# Altium integrated library Analog Devices Switches and Multiplexers Multiplexers (Muxes).IntLib: 481 symbols (part 13 of 23)
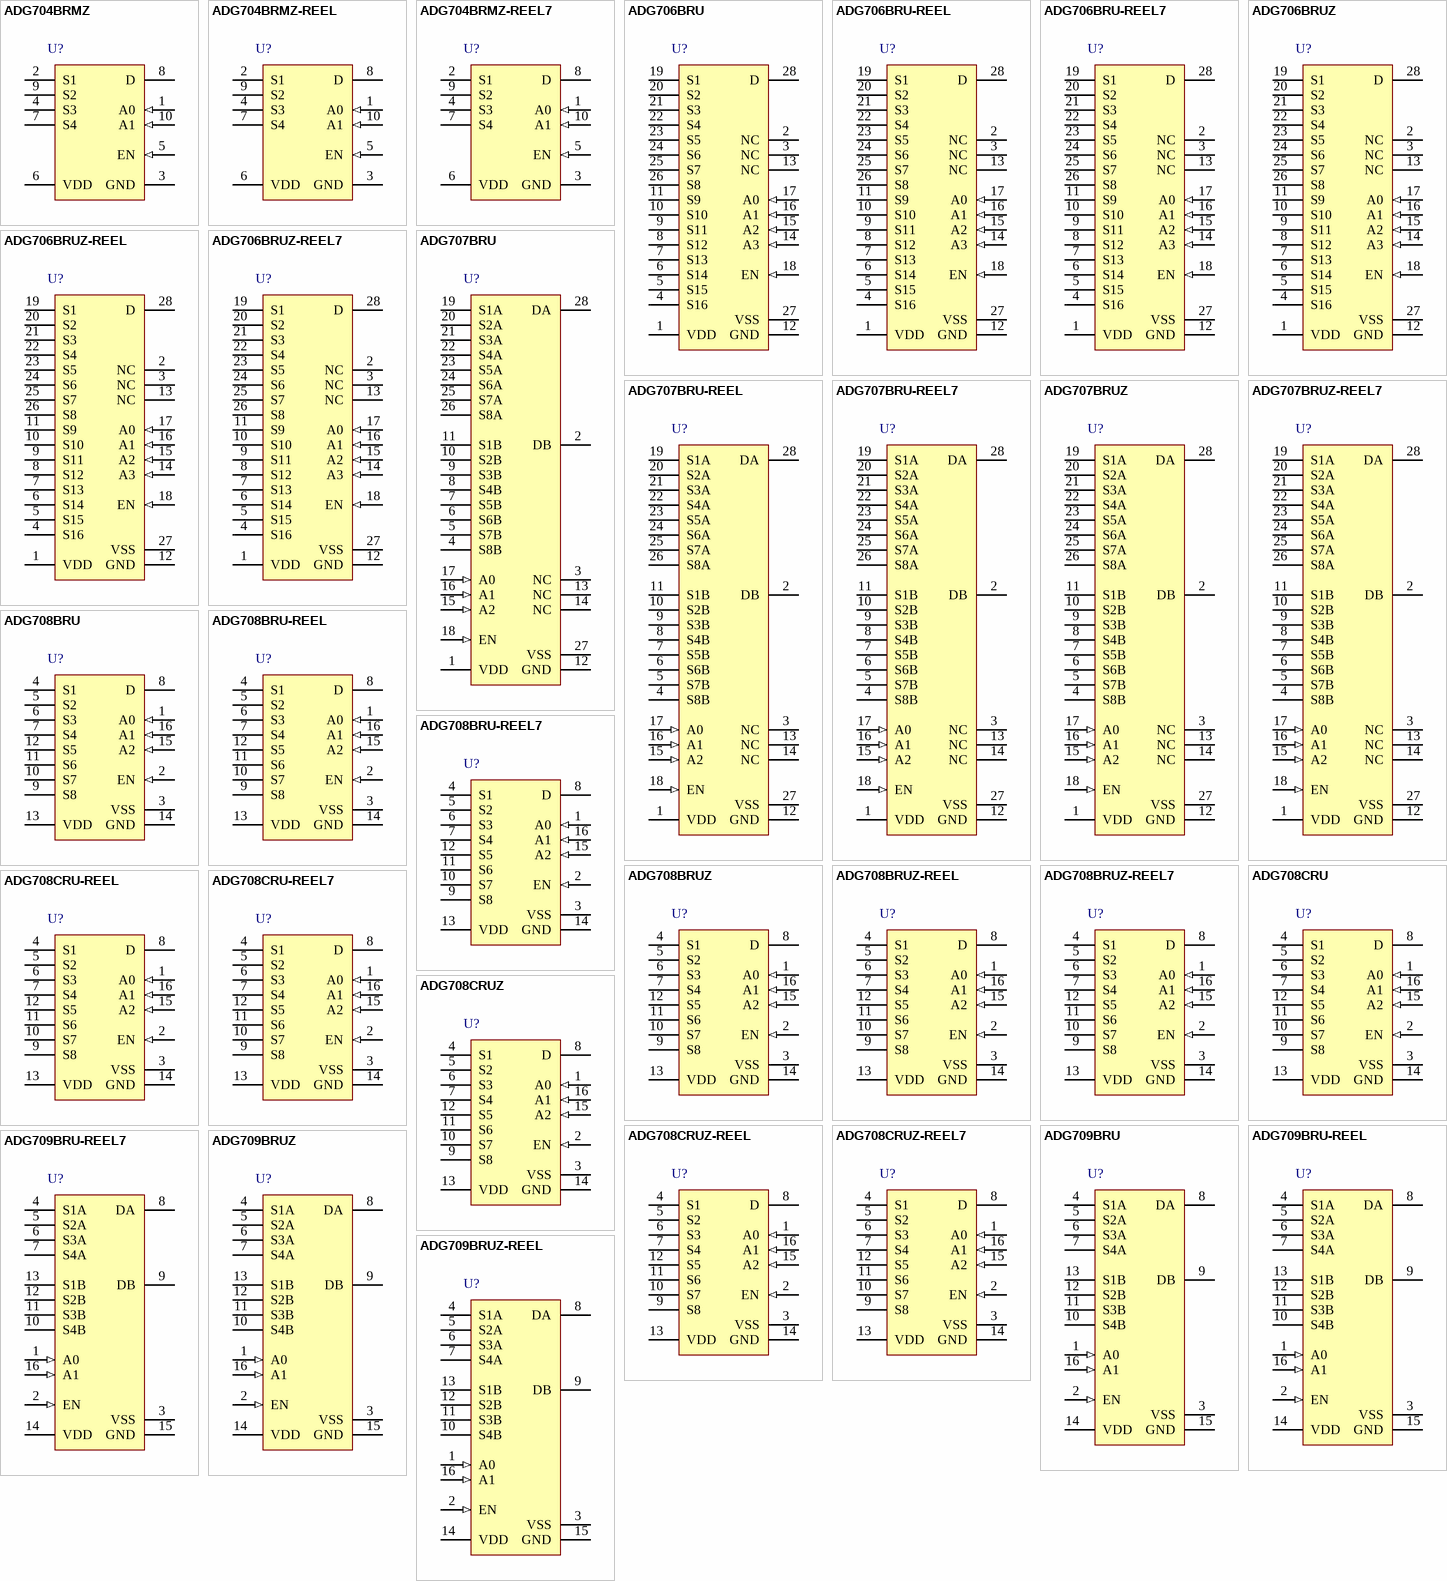
[diagram p29: symbols ADG704BRMZ to ADG709BRUZ-REEL]

## ADG708CRUZ
designator U?
1.8 to 5.5 V / +/-2.5 V, CMOS Low Voltage 3 Ohm, 8-Channel Multiplexer, -40 to 125 degC, 16-pin SOP (RU-16), Tube; Manufacturer: Analog Devices; PartNumber: ADG708CRUZ; Bandwidth (Hz): 55M; Max Analog Signal Range: Vss to Vdd; Ron (ohms): 3; Supply V Guar Performance: Dual_(+/-2.5V), Single_(+3V), Single_(+5V); t transition (s): 14n; DatasheetVersion: Rev. C; PackageVersion: Nov-02; PackageReference: RU-16; PackageDescription: 16-Pin Thin Shrink Small Outline Package, Body 5 x 4.4 mm, Pitch 0.65 mm; Supplier 1: Digi-Key; Supplier Part Number 1: ADG708CRUZ-ND; Supplier 2: Farnell; Supplier Part Number 2: 2305801; Supplier 3: Newark; Supplier Part Number 3: 84W7352; Supplier 4: Newark; Supplier Part Number 4: 59K1504; Supplier 5: Mouser; Supplier Part Number 5: 584-ADG708CRUZ; Packing: Tube; Mounting Technology: Surface Mount; Code_JEDEC: MO-153AB; ComponentLink1Description: Manufacturer URL; ComponentLink1URL: http://www.analog.com/en/index.html; ComponentLink2Description: Datasheet; ComponentLink2URL: http://www.analog.com/static/imported-files/data_sheets/ADG708_709.pdf; ComponentLink3Description: Package Specification; ComponentLink3URL: http:/www.analog.com/static/imported-files/packages/36244347913743854010197452789RU16.pdf
footprint ADI-RU-16_N (SOP, 16-Leads, Body 5x4.4mm, Pitch 0.65mm, IPC Medium Density)
footprint ADI-RU-16_L (SOP, 16-Leads, Body 5x4.4mm, Pitch 0.65mm, IPC High Density)
footprint ADI-RU-16_M (SOP, 16-Leads, Body 5x4.4mm, Pitch 0.65mm, IPC Low Density)
pins: 1 A0 (in) "Digital Input. Controls the configuration of the switch, as shown in the truth table (see Table 7).", 2 EN (in) "Digital Input. Controls the configuration of the switch, as shown in the truth table (see Table 7).", 3 VSS (power) "Most Negative Power Supply Pin in Dual-Supply Applications. For single-supply applications, it should be tied to GND.", 4 S1 "Source Terminal. Can be an input or output.", 5 S2 "Source Terminal. Can be an input or output.", 6 S3 "Source Terminal. Can be an input or output.", 7 S4 "Source Terminal. Can be an input or output.", 8 D "Drain Terminal. Can be an input or output.", 9 S8 "Source Terminal. Can be an input or output.", 10 S7 "Source Terminal. Can be an input or output.", 11 S6 "Source Terminal. Can be an input or output.", 12 S5 "Source Terminal. Can be an input or output.", 13 VDD (power) "Most Positive Power Supply Pin.", 14 GND (power) "Ground (0 V) Reference.", 15 A2 (in) "Digital Input. Controls the configuration of the switch, as shown in the truth table (see Table 7).", 16 A1 (in) "Digital Input. Controls the configuration of the switch, as shown in the truth table (see Table 7)."

## ADG708CRUZ-REEL
designator U?
1.8 to 5.5 V / +/-2.5 V, CMOS Low Voltage 3 Ohm, 8-Channel Multiplexer, -40 to 125 degC, 16-pin SOP (RU-16), Reel; Manufacturer: Analog Devices; PartNumber: ADG708CRUZ-REEL; Bandwidth (Hz): 55M; Max Analog Signal Range: Vss to Vdd; Ron (ohms): 3; Supply V Guar Performance: Dual_(+/-2.5V), Single_(+3V), Single_(+5V); t transition (s): 14n; DatasheetVersion: Rev. C; PackageVersion: Nov-02; PackageReference: RU-16; PackageDescription: 16-Pin Thin Shrink Small Outline Package, Body 5 x 4.4 mm, Pitch 0.65 mm; Supplier 1: Digi-Key; Supplier Part Number 1: ADG708CRUZ-REEL-ND; Supplier 2: Mouser; Supplier Part Number 2: 584-ADG708CRUZ-R; Packing: Reel; Mounting Technology: Surface Mount; Code_JEDEC: MO-153AB; ComponentLink1Description: Manufacturer URL; ComponentLink1URL: http://www.analog.com/en/index.html; ComponentLink2Description: Datasheet; ComponentLink2URL: http://www.analog.com/static/imported-files/data_sheets/ADG708_709.pdf; ComponentLink3Description: Package Specification; ComponentLink3URL: http:/www.analog.com/static/imported-files/packages/36244347913743854010197452789RU16.pdf
footprint ADI-RU-16_N (SOP, 16-Leads, Body 5x4.4mm, Pitch 0.65mm, IPC Medium Density)
footprint ADI-RU-16_L (SOP, 16-Leads, Body 5x4.4mm, Pitch 0.65mm, IPC High Density)
footprint ADI-RU-16_M (SOP, 16-Leads, Body 5x4.4mm, Pitch 0.65mm, IPC Low Density)
pins: 1 A0 (in) "Digital Input. Controls the configuration of the switch, as shown in the truth table (see Table 7).", 2 EN (in) "Digital Input. Controls the configuration of the switch, as shown in the truth table (see Table 7).", 3 VSS (power) "Most Negative Power Supply Pin in Dual-Supply Applications. For single-supply applications, it should be tied to GND.", 4 S1 "Source Terminal. Can be an input or output.", 5 S2 "Source Terminal. Can be an input or output.", 6 S3 "Source Terminal. Can be an input or output.", 7 S4 "Source Terminal. Can be an input or output.", 8 D "Drain Terminal. Can be an input or output.", 9 S8 "Source Terminal. Can be an input or output.", 10 S7 "Source Terminal. Can be an input or output.", 11 S6 "Source Terminal. Can be an input or output.", 12 S5 "Source Terminal. Can be an input or output.", 13 VDD (power) "Most Positive Power Supply Pin.", 14 GND (power) "Ground (0 V) Reference.", 15 A2 (in) "Digital Input. Controls the configuration of the switch, as shown in the truth table (see Table 7).", 16 A1 (in) "Digital Input. Controls the configuration of the switch, as shown in the truth table (see Table 7)."

## ADG708CRUZ-REEL7
designator U?
1.8 to 5.5 V / +/-2.5 V, CMOS Low Voltage 3 Ohm, 8-Channel Multiplexer, -40 to 125 degC, 16-pin SOP (RU-16), Reel; Manufacturer: Analog Devices; PartNumber: ADG708CRUZ-REEL7; Bandwidth (Hz): 55M; Max Analog Signal Range: Vss to Vdd; Ron (ohms): 3; Supply V Guar Performance: Dual_(+/-2.5V), Single_(+3V), Single_(+5V); t transition (s): 14n; DatasheetVersion: Rev. C; PackageVersion: Nov-02; PackageReference: RU-16; PackageDescription: 16-Pin Thin Shrink Small Outline Package, Body 5 x 4.4 mm, Pitch 0.65 mm; Supplier 1: Digi-Key; Supplier Part Number 1: ADG708CRUZ-REEL7TR-ND; Supplier 2: Digi-Key; Supplier Part Number 2: ADG708CRUZ-REEL7CT-ND; Supplier 3: Digi-Key; Supplier Part Number 3: ADG708CRUZ-REEL7DKR-ND; Supplier 4: Newark; Supplier Part Number 4: 59K1506; Supplier 5: Mouser; Supplier Part Number 5: 584-ADG708CRUZ-R7; Packing: Reel; Mounting Technology: Surface Mount; Code_JEDEC: MO-153AB; ComponentLink1Description: Manufacturer URL; ComponentLink1URL: http://www.analog.com/en/index.html; ComponentLink2Description: Datasheet; ComponentLink2URL: http://www.analog.com/static/imported-files/data_sheets/ADG708_709.pdf; ComponentLink3Description: Package Specification; ComponentLink3URL: http:/www.analog.com/static/imported-files/packages/36244347913743854010197452789RU16.pdf
footprint ADI-RU-16_N (SOP, 16-Leads, Body 5x4.4mm, Pitch 0.65mm, IPC Medium Density)
footprint ADI-RU-16_L (SOP, 16-Leads, Body 5x4.4mm, Pitch 0.65mm, IPC High Density)
footprint ADI-RU-16_M (SOP, 16-Leads, Body 5x4.4mm, Pitch 0.65mm, IPC Low Density)
pins: 1 A0 (in) "Digital Input. Controls the configuration of the switch, as shown in the truth table (see Table 7).", 2 EN (in) "Digital Input. Controls the configuration of the switch, as shown in the truth table (see Table 7).", 3 VSS (power) "Most Negative Power Supply Pin in Dual-Supply Applications. For single-supply applications, it should be tied to GND.", 4 S1 "Source Terminal. Can be an input or output.", 5 S2 "Source Terminal. Can be an input or output.", 6 S3 "Source Terminal. Can be an input or output.", 7 S4 "Source Terminal. Can be an input or output.", 8 D "Drain Terminal. Can be an input or output.", 9 S8 "Source Terminal. Can be an input or output.", 10 S7 "Source Terminal. Can be an input or output.", 11 S6 "Source Terminal. Can be an input or output.", 12 S5 "Source Terminal. Can be an input or output.", 13 VDD (power) "Most Positive Power Supply Pin.", 14 GND (power) "Ground (0 V) Reference.", 15 A2 (in) "Digital Input. Controls the configuration of the switch, as shown in the truth table (see Table 7).", 16 A1 (in) "Digital Input. Controls the configuration of the switch, as shown in the truth table (see Table 7)."

## ADG709BRU
designator U?
1.8 to 5.5 V / +/-2.5 V, CMOS Low Voltage 3 Ohm, 4-Channel Multiplexer, -40 to 125 degC, 16-pin SOP (RU-16), Tube; Manufacturer: Analog Devices; PartNumber: ADG709BRU; Bandwidth (Hz): 55M; Max Analog Signal Range: Vss to Vdd; Ron (ohms): 3; Supply V Guar Performance: Dual_(+/-2.5V), Single_(+3V), Single_(+5V); t transition (s): 14 ns; DatasheetVersion: Rev. C; PackageVersion: Nov-02; PackageReference: RU-16; PackageDescription: 16-Pin Thin Shrink Small Outline Package, Body 5 x 4.4 mm, Pitch 0.65 mm; Supplier 1: Digi-Key; Supplier Part Number 1: ADG709BRU-ND; Supplier 2: Mouser; Supplier Part Number 2: 584-ADG709BRU; Packing: Tube; Mounting Technology: Surface Mount; Code_JEDEC: MO-153AB; ComponentLink1Description: Manufacturer URL; ComponentLink1URL: http://www.analog.com/en/index.html; ComponentLink2Description: Datasheet; ComponentLink2URL: http://www.analog.com/static/imported-files/data_sheets/ADG708_709.pdf; ComponentLink3Description: Package Specification; ComponentLink3URL: http:/www.analog.com/static/imported-files/packages/36244347913743854010197452789RU16.pdf
footprint ADI-RU-16_N (SOP, 16-Leads, Body 5x4.4mm, Pitch 0.65mm, IPC Medium Density)
footprint ADI-RU-16_L (SOP, 16-Leads, Body 5x4.4mm, Pitch 0.65mm, IPC High Density)
footprint ADI-RU-16_M (SOP, 16-Leads, Body 5x4.4mm, Pitch 0.65mm, IPC Low Density)
pins: 1 A0 (in) "Digital Input. Controls the configuration of the switch.", 2 EN (in) "Digital Input. Controls the configuration of the switch.", 3 VSS (power) "Most Negative Power Supply Pin in Dual-Supply Applications. For single-supply applications, it should be tied to GND.", 4 S1A "Source Terminal. Can be an input or output.", 5 S2A "Source Terminal. Can be an input or output.", 6 S3A "Source Terminal. Can be an input or output.", 7 S4A "Source Terminal. Can be an input or output.", 8 DA "Drain Terminal. Can be an input or output.", 9 DB "Drain Terminal. Can be an input or output.", 10 S4B "Source Terminal. Can be an input or output.", 11 S3B "Source Terminal. Can be an input or output.", 12 S2B "Source Terminal. Can be an input or output.", 13 S1B "Source Terminal. Can be an input or output.", 14 VDD (power) "Most Positive Power Supply Pin.", 15 GND (power) "Ground (0 V) Reference.", 16 A1 (in) "Digital Input. Controls the configuration of the switch."

## ADG709BRU-REEL
designator U?
1.8 to 5.5 V / +/-2.5 V, CMOS Low Voltage 3 Ohm, 4-Channel Multiplexer, -40 to 125 degC, 16-pin SOP (RU-16), Reel; Manufacturer: Analog Devices; PartNumber: ADG709BRU-REEL; Bandwidth (Hz): 55M; Max Analog Signal Range: Vss to Vdd; Ron (ohms): 3; Supply V Guar Performance: Dual_(+/-2.5V), Single_(+3V), Single_(+5V); t transition (s): 14n; DatasheetVersion: Rev. C; PackageVersion: Nov-02; PackageReference: RU-16; PackageDescription: 16-Pin Thin Shrink Small Outline Package, Body 5 x 4.4 mm, Pitch 0.65 mm; Supplier 1: Digi-Key; Supplier Part Number 1: ADG709BRU-REEL-ND; Supplier 2: Newark; Supplier Part Number 2: 02H0870; Supplier 3: Mouser; Supplier Part Number 3: 584-ADG709BRU-R; Packing: Reel; Mounting Technology: Surface Mount; Code_JEDEC: MO-153AB; ComponentLink1Description: Manufacturer URL; ComponentLink1URL: http://www.analog.com/en/index.html; ComponentLink2Description: Datasheet; ComponentLink2URL: http://www.analog.com/static/imported-files/data_sheets/ADG708_709.pdf; ComponentLink3Description: Package Specification; ComponentLink3URL: http:/www.analog.com/static/imported-files/packages/36244347913743854010197452789RU16.pdf
footprint ADI-RU-16_N (SOP, 16-Leads, Body 5x4.4mm, Pitch 0.65mm, IPC Medium Density)
footprint ADI-RU-16_L (SOP, 16-Leads, Body 5x4.4mm, Pitch 0.65mm, IPC High Density)
footprint ADI-RU-16_M (SOP, 16-Leads, Body 5x4.4mm, Pitch 0.65mm, IPC Low Density)
pins: 1 A0 (in) "Digital Input. Controls the configuration of the switch.", 2 EN (in) "Digital Input. Controls the configuration of the switch.", 3 VSS (power) "Most Negative Power Supply Pin in Dual-Supply Applications. For single-supply applications, it should be tied to GND.", 4 S1A "Source Terminal. Can be an input or output.", 5 S2A "Source Terminal. Can be an input or output.", 6 S3A "Source Terminal. Can be an input or output.", 7 S4A "Source Terminal. Can be an input or output.", 8 DA "Drain Terminal. Can be an input or output.", 9 DB "Drain Terminal. Can be an input or output.", 10 S4B "Source Terminal. Can be an input or output.", 11 S3B "Source Terminal. Can be an input or output.", 12 S2B "Source Terminal. Can be an input or output.", 13 S1B "Source Terminal. Can be an input or output.", 14 VDD (power) "Most Positive Power Supply Pin.", 15 GND (power) "Ground (0 V) Reference.", 16 A1 (in) "Digital Input. Controls the configuration of the switch."

## ADG709BRU-REEL7
designator U?
1.8 to 5.5 V / +/-2.5 V, CMOS Low Voltage 3 Ohm, 4-Channel Multiplexer, -40 to 125 degC, 16-pin SOP (RU-16), Reel; Manufacturer: Analog Devices; PartNumber: ADG709BRU-REEL7; Bandwidth (Hz): 55M; Max Analog Signal Range: Vss to Vdd; Ron (ohms): 3; Supply V Guar Performance: Dual_(+/-2.5V), Single_(+3V), Single_(+5V); t transition (s): 14 ns; DatasheetVersion: Rev. C; PackageVersion: Nov-02; PackageReference: RU-16; PackageDescription: 16-Pin Thin Shrink Small Outline Package, Body 5 x 4.4 mm, Pitch 0.65 mm; Supplier 1: Digi-Key; Supplier Part Number 1: ADG709BRU-REEL7TR-ND; Supplier 2: Digi-Key; Supplier Part Number 2: ADG709BRU-REEL7CT-ND; Supplier 3: Digi-Key; Supplier Part Number 3: ADG709BRUREEL7DKR-ND; Supplier 4: Mouser; Supplier Part Number 4: 584-ADG709BRU-R7; Packing: Reel; Mounting Technology: Surface Mount; Code_JEDEC: MO-153AB; ComponentLink1Description: Manufacturer URL; ComponentLink1URL: http://www.analog.com/en/index.html; ComponentLink2Description: Datasheet; ComponentLink2URL: http://www.analog.com/static/imported-files/data_sheets/ADG708_709.pdf; ComponentLink3Description: Package Specification; ComponentLink3URL: http:/www.analog.com/static/imported-files/packages/36244347913743854010197452789RU16.pdf
footprint ADI-RU-16_N (SOP, 16-Leads, Body 5x4.4mm, Pitch 0.65mm, IPC Medium Density)
footprint ADI-RU-16_L (SOP, 16-Leads, Body 5x4.4mm, Pitch 0.65mm, IPC High Density)
footprint ADI-RU-16_M (SOP, 16-Leads, Body 5x4.4mm, Pitch 0.65mm, IPC Low Density)
pins: 1 A0 (in) "Digital Input. Controls the configuration of the switch.", 2 EN (in) "Digital Input. Controls the configuration of the switch.", 3 VSS (power) "Most Negative Power Supply Pin in Dual-Supply Applications. For single-supply applications, it should be tied to GND.", 4 S1A "Source Terminal. Can be an input or output.", 5 S2A "Source Terminal. Can be an input or output.", 6 S3A "Source Terminal. Can be an input or output.", 7 S4A "Source Terminal. Can be an input or output.", 8 DA "Drain Terminal. Can be an input or output.", 9 DB "Drain Terminal. Can be an input or output.", 10 S4B "Source Terminal. Can be an input or output.", 11 S3B "Source Terminal. Can be an input or output.", 12 S2B "Source Terminal. Can be an input or output.", 13 S1B "Source Terminal. Can be an input or output.", 14 VDD (power) "Most Positive Power Supply Pin.", 15 GND (power) "Ground (0 V) Reference.", 16 A1 (in) "Digital Input. Controls the configuration of the switch."

## ADG709BRUZ
designator U?
1.8 to 5.5 V / +/-2.5 V, CMOS Low Voltage 3 Ohm, 4-Channel Multiplexer, -40 to 125 degC, 16-pin SOP (RU-16), Tube; Manufacturer: Analog Devices; PartNumber: ADG709BRUZ; Bandwidth (Hz): 55M; Max Analog Signal Range: Vss to Vdd; Ron (ohms): 3; Supply V Guar Performance: Dual_(+/-2.5V), Single_(+3V), Single_(+5V); t transition (s): 14n; DatasheetVersion: Rev. C; PackageVersion: Nov-02; PackageReference: RU-16; PackageDescription: 16-Pin Thin Shrink Small Outline Package, Body 5 x 4.4 mm, Pitch 0.65 mm; Supplier 1: Digi-Key; Supplier Part Number 1: ADG709BRUZ-ND; Supplier 2: Farnell; Supplier Part Number 2: 9604359; Supplier 3: Newark; Supplier Part Number 3: 31M3805; Supplier 4: Newark; Supplier Part Number 4: 19M0683; Supplier 5: Mouser; Supplier Part Number 5: 584-ADG709BRUZ; Packing: Tube; Mounting Technology: Surface Mount; Code_JEDEC: MO-153AB; ComponentLink1Description: Manufacturer URL; ComponentLink1URL: http://www.analog.com/en/index.html; ComponentLink2Description: Datasheet; ComponentLink2URL: http://www.analog.com/static/imported-files/data_sheets/ADG708_709.pdf; ComponentLink3Description: Package Specification; ComponentLink3URL: http:/www.analog.com/static/imported-files/packages/36244347913743854010197452789RU16.pdf
footprint ADI-RU-16_N (SOP, 16-Leads, Body 5x4.4mm, Pitch 0.65mm, IPC Medium Density)
footprint ADI-RU-16_L (SOP, 16-Leads, Body 5x4.4mm, Pitch 0.65mm, IPC High Density)
footprint ADI-RU-16_M (SOP, 16-Leads, Body 5x4.4mm, Pitch 0.65mm, IPC Low Density)
pins: 1 A0 (in) "Digital Input. Controls the configuration of the switch.", 2 EN (in) "Digital Input. Controls the configuration of the switch.", 3 VSS (power) "Most Negative Power Supply Pin in Dual-Supply Applications. For single-supply applications, it should be tied to GND.", 4 S1A "Source Terminal. Can be an input or output.", 5 S2A "Source Terminal. Can be an input or output.", 6 S3A "Source Terminal. Can be an input or output.", 7 S4A "Source Terminal. Can be an input or output.", 8 DA "Drain Terminal. Can be an input or output.", 9 DB "Drain Terminal. Can be an input or output.", 10 S4B "Source Terminal. Can be an input or output.", 11 S3B "Source Terminal. Can be an input or output.", 12 S2B "Source Terminal. Can be an input or output.", 13 S1B "Source Terminal. Can be an input or output.", 14 VDD (power) "Most Positive Power Supply Pin.", 15 GND (power) "Ground (0 V) Reference.", 16 A1 (in) "Digital Input. Controls the configuration of the switch."

## ADG709BRUZ-REEL
designator U?
1.8 to 5.5 V / +/-2.5 V, CMOS Low Voltage 3 Ohm, 4-Channel Multiplexer, -40 to 125 degC, 16-pin SOP (RU-16), Reel; Manufacturer: Analog Devices; PartNumber: ADG709BRUZ-REEL; Bandwidth (Hz): 55M; Max Analog Signal Range: Vss to Vdd; Ron (ohms): 3; Supply V Guar Performance: Dual_(+/-2.5V), Single_(+3V), Single_(+5V); t transition (s): 14n; DatasheetVersion: Rev. C; PackageVersion: Nov-02; PackageReference: RU-16; PackageDescription: 16-Pin Thin Shrink Small Outline Package, Body 5 x 4.4 mm, Pitch 0.65 mm; Supplier 1: Digi-Key; Supplier Part Number 1: ADG709BRUZ-REEL-ND; Supplier 2: Newark; Supplier Part Number 2: 59K1508; Supplier 3: Mouser; Supplier Part Number 3: 584-ADG709BRUZ-R; Packing: Reel; Mounting Technology: Surface Mount; Code_JEDEC: MO-153AB; ComponentLink1Description: Manufacturer URL; ComponentLink1URL: http://www.analog.com/en/index.html; ComponentLink2Description: Datasheet; ComponentLink2URL: http://www.analog.com/static/imported-files/data_sheets/ADG708_709.pdf; ComponentLink3Description: Package Specification; ComponentLink3URL: http:/www.analog.com/static/imported-files/packages/36244347913743854010197452789RU16.pdf
footprint ADI-RU-16_N (SOP, 16-Leads, Body 5x4.4mm, Pitch 0.65mm, IPC Medium Density)
footprint ADI-RU-16_L (SOP, 16-Leads, Body 5x4.4mm, Pitch 0.65mm, IPC High Density)
footprint ADI-RU-16_M (SOP, 16-Leads, Body 5x4.4mm, Pitch 0.65mm, IPC Low Density)
pins: 1 A0 (in) "Digital Input. Controls the configuration of the switch.", 2 EN (in) "Digital Input. Controls the configuration of the switch.", 3 VSS (power) "Most Negative Power Supply Pin in Dual-Supply Applications. For single-supply applications, it should be tied to GND.", 4 S1A "Source Terminal. Can be an input or output.", 5 S2A "Source Terminal. Can be an input or output.", 6 S3A "Source Terminal. Can be an input or output.", 7 S4A "Source Terminal. Can be an input or output.", 8 DA "Drain Terminal. Can be an input or output.", 9 DB "Drain Terminal. Can be an input or output.", 10 S4B "Source Terminal. Can be an input or output.", 11 S3B "Source Terminal. Can be an input or output.", 12 S2B "Source Terminal. Can be an input or output.", 13 S1B "Source Terminal. Can be an input or output.", 14 VDD (power) "Most Positive Power Supply Pin.", 15 GND (power) "Ground (0 V) Reference.", 16 A1 (in) "Digital Input. Controls the configuration of the switch."

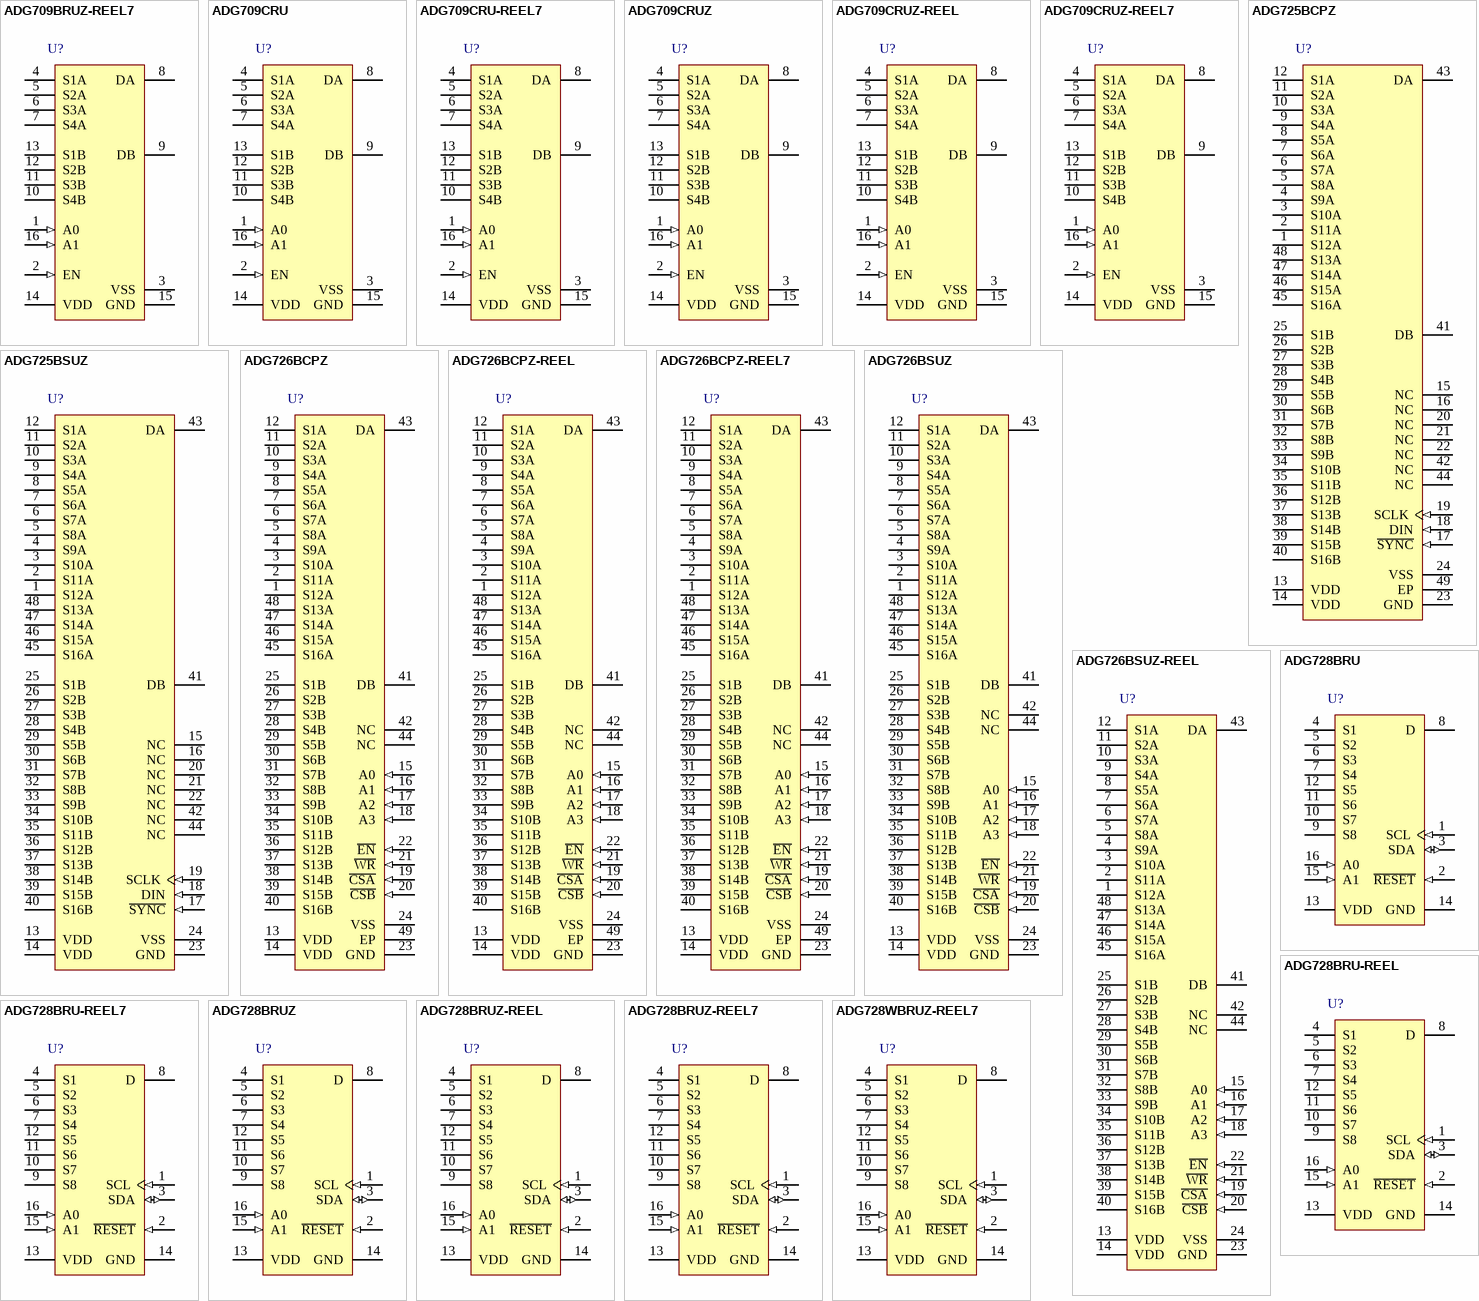
[diagram p10: symbols ADG709BRUZ-REEL7 to ADG728WBRUZ-REEL7]

## ADG709BRUZ-REEL7
designator U?
1.8 to 5.5 V / +/-2.5 V, CMOS Low Voltage 3 Ohm, 4-Channel Multiplexer, -40 to 125 degC, 16-pin SOP (RU-16), Reel; Manufacturer: Analog Devices; PartNumber: ADG709BRUZ-REEL7; Bandwidth (Hz): 55M; Max Analog Signal Range: Vss to Vdd; Ron (ohms): 3; Supply V Guar Performance: Dual_(+/-2.5V), Single_(+3V), Single_(+5V); t transition (s): 14n; DatasheetVersion: Rev. C; PackageVersion: Nov-02; PackageReference: RU-16; PackageDescription: 16-Pin Thin Shrink Small Outline Package, Body 5 x 4.4 mm, Pitch 0.65 mm; Supplier 1: Digi-Key; Supplier Part Number 1: ADG709BRUZ-REEL7TR-ND; Supplier 2: Digi-Key; Supplier Part Number 2: ADG709BRUZ-REEL7CT-ND; Supplier 3: Digi-Key; Supplier Part Number 3: ADG709BRUZ-REEL7DKR-ND; Supplier 4: Newark; Supplier Part Number 4: 59K1509; Supplier 5: Mouser; Supplier Part Number 5: 584-ADG709BRUZ-R7; Packing: Reel; Mounting Technology: Surface Mount; Code_JEDEC: MO-153AB; ComponentLink1Description: Manufacturer URL; ComponentLink1URL: http://www.analog.com/en/index.html; ComponentLink2Description: Datasheet; ComponentLink2URL: http://www.analog.com/static/imported-files/data_sheets/ADG708_709.pdf; ComponentLink3Description: Package Specification; ComponentLink3URL: http:/www.analog.com/static/imported-files/packages/36244347913743854010197452789RU16.pdf
footprint ADI-RU-16_N (SOP, 16-Leads, Body 5x4.4mm, Pitch 0.65mm, IPC Medium Density)
footprint ADI-RU-16_L (SOP, 16-Leads, Body 5x4.4mm, Pitch 0.65mm, IPC High Density)
footprint ADI-RU-16_M (SOP, 16-Leads, Body 5x4.4mm, Pitch 0.65mm, IPC Low Density)
pins: 1 A0 (in) "Digital Input. Controls the configuration of the switch.", 2 EN (in) "Digital Input. Controls the configuration of the switch.", 3 VSS (power) "Most Negative Power Supply Pin in Dual-Supply Applications. For single-supply applications, it should be tied to GND.", 4 S1A "Source Terminal. Can be an input or output.", 5 S2A "Source Terminal. Can be an input or output.", 6 S3A "Source Terminal. Can be an input or output.", 7 S4A "Source Terminal. Can be an input or output.", 8 DA "Drain Terminal. Can be an input or output.", 9 DB "Drain Terminal. Can be an input or output.", 10 S4B "Source Terminal. Can be an input or output.", 11 S3B "Source Terminal. Can be an input or output.", 12 S2B "Source Terminal. Can be an input or output.", 13 S1B "Source Terminal. Can be an input or output.", 14 VDD (power) "Most Positive Power Supply Pin.", 15 GND (power) "Ground (0 V) Reference.", 16 A1 (in) "Digital Input. Controls the configuration of the switch."

## ADG709CRU
designator U?
1.8 to 5.5 V / +/-2.5 V, CMOS Low Voltage 3 Ohm, 4-Channel Multiplexer, -40 to 125 degC, 16-pin SOP (RU-16), Tube; Manufacturer: Analog Devices; PartNumber: ADG709CRU; Bandwidth (Hz): 55M; Max Analog Signal Range: Vss to Vdd; Ron (ohms): 3; Supply V Guar Performance: Dual_(+/-2.5V), Single_(+3V), Single_(+5V); t transition (s): 14n; DatasheetVersion: Rev. C; PackageVersion: Nov-02; PackageReference: RU-16; PackageDescription: 16-Pin Thin Shrink Small Outline Package, Body 5 x 4.4 mm, Pitch 0.65 mm; Supplier 1: Digi-Key; Supplier Part Number 1: ADG709CRU-ND; Packing: Tube; Mounting Technology: Surface Mount; Code_JEDEC: MO-153AB; ComponentLink1Description: Manufacturer URL; ComponentLink1URL: http://www.analog.com/en/index.html; ComponentLink2Description: Datasheet; ComponentLink2URL: http://www.analog.com/static/imported-files/data_sheets/ADG708_709.pdf; ComponentLink3Description: Package Specification; ComponentLink3URL: http:/www.analog.com/static/imported-files/packages/36244347913743854010197452789RU16.pdf
footprint ADI-RU-16_N (SOP, 16-Leads, Body 5x4.4mm, Pitch 0.65mm, IPC Medium Density)
footprint ADI-RU-16_L (SOP, 16-Leads, Body 5x4.4mm, Pitch 0.65mm, IPC High Density)
footprint ADI-RU-16_M (SOP, 16-Leads, Body 5x4.4mm, Pitch 0.65mm, IPC Low Density)
pins: 1 A0 (in) "Digital Input. Controls the configuration of the switch.", 2 EN (in) "Digital Input. Controls the configuration of the switch.", 3 VSS (power) "Most Negative Power Supply Pin in Dual-Supply Applications. For single-supply applications, it should be tied to GND.", 4 S1A "Source Terminal. Can be an input or output.", 5 S2A "Source Terminal. Can be an input or output.", 6 S3A "Source Terminal. Can be an input or output.", 7 S4A "Source Terminal. Can be an input or output.", 8 DA "Drain Terminal. Can be an input or output.", 9 DB "Drain Terminal. Can be an input or output.", 10 S4B "Source Terminal. Can be an input or output.", 11 S3B "Source Terminal. Can be an input or output.", 12 S2B "Source Terminal. Can be an input or output.", 13 S1B "Source Terminal. Can be an input or output.", 14 VDD (power) "Most Positive Power Supply Pin.", 15 GND (power) "Ground (0 V) Reference.", 16 A1 (in) "Digital Input. Controls the configuration of the switch."

## ADG709CRU-REEL7
designator U?
1.8 to 5.5 V / +/-2.5 V, CMOS Low Voltage 3 Ohm, 4-Channel Multiplexer, -40 to 125 degC, 16-pin SOP (RU-16), Reel; Manufacturer: Analog Devices; PartNumber: ADG709CRU-REEL7; Bandwidth (Hz): 55M; Max Analog Signal Range: Vss to Vdd; Ron (ohms): 3; Supply V Guar Performance: Dual_(+/-2.5V), Single_(+3V), Single_(+5V); t transition (s): 14n; DatasheetVersion: Rev. C; PackageVersion: Nov-02; PackageReference: RU-16; PackageDescription: 16-Pin Thin Shrink Small Outline Package, Body 5 x 4.4 mm, Pitch 0.65 mm; Supplier 1: Digi-Key; Supplier Part Number 1: ADG709CRU-REEL7TR-ND; Supplier 2: Digi-Key; Supplier Part Number 2: ADG709CRU-REEL7CT-ND; Supplier 3: Digi-Key; Supplier Part Number 3: ADG709CRU-REEL7DKR-ND; Supplier 4: Newark; Supplier Part Number 4: 02H0873; Supplier 5: Mouser; Supplier Part Number 5: 584-ADG709CRU-R7; Packing: Reel; Mounting Technology: Surface Mount; Code_JEDEC: MO-153AB; ComponentLink1Description: Manufacturer URL; ComponentLink1URL: http://www.analog.com/en/index.html; ComponentLink2Description: Datasheet; ComponentLink2URL: http://www.analog.com/static/imported-files/data_sheets/ADG708_709.pdf; ComponentLink3Description: Package Specification; ComponentLink3URL: http:/www.analog.com/static/imported-files/packages/36244347913743854010197452789RU16.pdf
footprint ADI-RU-16_N (SOP, 16-Leads, Body 5x4.4mm, Pitch 0.65mm, IPC Medium Density)
footprint ADI-RU-16_L (SOP, 16-Leads, Body 5x4.4mm, Pitch 0.65mm, IPC High Density)
footprint ADI-RU-16_M (SOP, 16-Leads, Body 5x4.4mm, Pitch 0.65mm, IPC Low Density)
pins: 1 A0 (in) "Digital Input. Controls the configuration of the switch.", 2 EN (in) "Digital Input. Controls the configuration of the switch.", 3 VSS (power) "Most Negative Power Supply Pin in Dual-Supply Applications. For single-supply applications, it should be tied to GND.", 4 S1A "Source Terminal. Can be an input or output.", 5 S2A "Source Terminal. Can be an input or output.", 6 S3A "Source Terminal. Can be an input or output.", 7 S4A "Source Terminal. Can be an input or output.", 8 DA "Drain Terminal. Can be an input or output.", 9 DB "Drain Terminal. Can be an input or output.", 10 S4B "Source Terminal. Can be an input or output.", 11 S3B "Source Terminal. Can be an input or output.", 12 S2B "Source Terminal. Can be an input or output.", 13 S1B "Source Terminal. Can be an input or output.", 14 VDD (power) "Most Positive Power Supply Pin.", 15 GND (power) "Ground (0 V) Reference.", 16 A1 (in) "Digital Input. Controls the configuration of the switch."

## ADG709CRUZ
designator U?
1.8 to 5.5 V / +/-2.5 V, CMOS Low Voltage 3 Ohm, 4-Channel Multiplexer, -40 to 125 degC, 16-pin SOP (RU-16), Tube; Manufacturer: Analog Devices; PartNumber: ADG709CRUZ; Bandwidth (Hz): 55M; Max Analog Signal Range: Vss to Vdd; Ron (ohms): 3; Supply V Guar Performance: Dual_(+/-2.5V), Single_(+3V), Single_(+5V); t transition (s): 14n; DatasheetVersion: Rev. C; PackageVersion: Nov-02; PackageReference: RU-16; PackageDescription: 16-Pin Thin Shrink Small Outline Package, Body 5 x 4.4 mm, Pitch 0.65 mm; Supplier 1: Digi-Key; Supplier Part Number 1: ADG709CRUZ-ND; Supplier 2: Farnell; Supplier Part Number 2: 2377062; Supplier 3: Newark; Supplier Part Number 3: 23X5953; Supplier 4: Newark; Supplier Part Number 4: 59K1510; Supplier 5: Mouser; Supplier Part Number 5: 584-ADG709CRUZ; Packing: Tube; Mounting Technology: Surface Mount; Code_JEDEC: MO-153AB; ComponentLink1Description: Manufacturer URL; ComponentLink1URL: http://www.analog.com/en/index.html; ComponentLink2Description: Datasheet; ComponentLink2URL: http://www.analog.com/static/imported-files/data_sheets/ADG708_709.pdf; ComponentLink3Description: Package Specification; ComponentLink3URL: http:/www.analog.com/static/imported-files/packages/36244347913743854010197452789RU16.pdf
footprint ADI-RU-16_N (SOP, 16-Leads, Body 5x4.4mm, Pitch 0.65mm, IPC Medium Density)
footprint ADI-RU-16_L (SOP, 16-Leads, Body 5x4.4mm, Pitch 0.65mm, IPC High Density)
footprint ADI-RU-16_M (SOP, 16-Leads, Body 5x4.4mm, Pitch 0.65mm, IPC Low Density)
pins: 1 A0 (in) "Digital Input. Controls the configuration of the switch.", 2 EN (in) "Digital Input. Controls the configuration of the switch.", 3 VSS (power) "Most Negative Power Supply Pin in Dual-Supply Applications. For single-supply applications, it should be tied to GND.", 4 S1A "Source Terminal. Can be an input or output.", 5 S2A "Source Terminal. Can be an input or output.", 6 S3A "Source Terminal. Can be an input or output.", 7 S4A "Source Terminal. Can be an input or output.", 8 DA "Drain Terminal. Can be an input or output.", 9 DB "Drain Terminal. Can be an input or output.", 10 S4B "Source Terminal. Can be an input or output.", 11 S3B "Source Terminal. Can be an input or output.", 12 S2B "Source Terminal. Can be an input or output.", 13 S1B "Source Terminal. Can be an input or output.", 14 VDD (power) "Most Positive Power Supply Pin.", 15 GND (power) "Ground (0 V) Reference.", 16 A1 (in) "Digital Input. Controls the configuration of the switch."

## ADG709CRUZ-REEL
designator U?
1.8 to 5.5 V / +/-2.5 V, CMOS Low Voltage 3 Ohm, 4-Channel Multiplexer, -40 to 125 degC, 16-pin SOP (RU-16), Reel; Manufacturer: Analog Devices; PartNumber: ADG709CRUZ-REEL; Bandwidth (Hz): 55M; Max Analog Signal Range: Vss to Vdd; Ron (ohms): 3; Supply V Guar Performance: Dual_(+/-2.5V), Single_(+3V), Single_(+5V); t transition (s): 14n; DatasheetVersion: Rev. C; PackageVersion: Nov-02; PackageReference: RU-16; PackageDescription: 16-Pin Thin Shrink Small Outline Package, Body 5 x 4.4 mm, Pitch 0.65 mm; Supplier 1: Digi-Key; Supplier Part Number 1: ADG709CRUZ-REEL-ND; Supplier 2: Newark; Supplier Part Number 2: 59K1511; Supplier 3: Mouser; Supplier Part Number 3: 584-ADG709CRUZ-R; Packing: Reel; Mounting Technology: Surface Mount; Code_JEDEC: MO-153AB; ComponentLink1Description: Manufacturer URL; ComponentLink1URL: http://www.analog.com/en/index.html; ComponentLink2Description: Datasheet; ComponentLink2URL: http://www.analog.com/static/imported-files/data_sheets/ADG708_709.pdf; ComponentLink3Description: Package Specification; ComponentLink3URL: http:/www.analog.com/static/imported-files/packages/36244347913743854010197452789RU16.pdf
footprint ADI-RU-16_N (SOP, 16-Leads, Body 5x4.4mm, Pitch 0.65mm, IPC Medium Density)
footprint ADI-RU-16_L (SOP, 16-Leads, Body 5x4.4mm, Pitch 0.65mm, IPC High Density)
footprint ADI-RU-16_M (SOP, 16-Leads, Body 5x4.4mm, Pitch 0.65mm, IPC Low Density)
pins: 1 A0 (in) "Digital Input. Controls the configuration of the switch.", 2 EN (in) "Digital Input. Controls the configuration of the switch.", 3 VSS (power) "Most Negative Power Supply Pin in Dual-Supply Applications. For single-supply applications, it should be tied to GND.", 4 S1A "Source Terminal. Can be an input or output.", 5 S2A "Source Terminal. Can be an input or output.", 6 S3A "Source Terminal. Can be an input or output.", 7 S4A "Source Terminal. Can be an input or output.", 8 DA "Drain Terminal. Can be an input or output.", 9 DB "Drain Terminal. Can be an input or output.", 10 S4B "Source Terminal. Can be an input or output.", 11 S3B "Source Terminal. Can be an input or output.", 12 S2B "Source Terminal. Can be an input or output.", 13 S1B "Source Terminal. Can be an input or output.", 14 VDD (power) "Most Positive Power Supply Pin.", 15 GND (power) "Ground (0 V) Reference.", 16 A1 (in) "Digital Input. Controls the configuration of the switch."

## ADG709CRUZ-REEL7
designator U?
1.8 to 5.5 V / +/-2.5 V, CMOS Low Voltage 3 Ohm, 4-Channel Multiplexer, -40 to 125 degC, 16-pin SOP (RU-16), Reel; Manufacturer: Analog Devices; PartNumber: ADG709CRUZ-REEL7; Bandwidth (Hz): 55M; Max Analog Signal Range: Vss to Vdd; Ron (ohms): 3; Supply V Guar Performance: Dual_(+/-2.5V), Single_(+3V), Single_(+5V); t transition (s): 14n; DatasheetVersion: Rev. C; PackageVersion: Nov-02; PackageReference: RU-16; PackageDescription: 16-Pin Thin Shrink Small Outline Package, Body 5 x 4.4 mm, Pitch 0.65 mm; Supplier 1: Digi-Key; Supplier Part Number 1: ADG709CRUZ-REEL7TR-ND; Supplier 2: Digi-Key; Supplier Part Number 2: ADG709CRUZ-REEL7CT-ND; Supplier 3: Digi-Key; Supplier Part Number 3: ADG709CRUZ-REEL7DKR-ND; Supplier 4: Newark; Supplier Part Number 4: 59K1512; Supplier 5: Mouser; Supplier Part Number 5: 584-ADG709CRUZ-R7; Packing: Reel; Mounting Technology: Surface Mount; Code_JEDEC: MO-153AB; ComponentLink1Description: Manufacturer URL; ComponentLink1URL: http://www.analog.com/en/index.html; ComponentLink2Description: Datasheet; ComponentLink2URL: http://www.analog.com/static/imported-files/data_sheets/ADG708_709.pdf; ComponentLink3Description: Package Specification; ComponentLink3URL: http:/www.analog.com/static/imported-files/packages/36244347913743854010197452789RU16.pdf
footprint ADI-RU-16_N (SOP, 16-Leads, Body 5x4.4mm, Pitch 0.65mm, IPC Medium Density)
footprint ADI-RU-16_L (SOP, 16-Leads, Body 5x4.4mm, Pitch 0.65mm, IPC High Density)
footprint ADI-RU-16_M (SOP, 16-Leads, Body 5x4.4mm, Pitch 0.65mm, IPC Low Density)
pins: 1 A0 (in) "Digital Input. Controls the configuration of the switch.", 2 EN (in) "Digital Input. Controls the configuration of the switch.", 3 VSS (power) "Most Negative Power Supply Pin in Dual-Supply Applications. For single-supply applications, it should be tied to GND.", 4 S1A "Source Terminal. Can be an input or output.", 5 S2A "Source Terminal. Can be an input or output.", 6 S3A "Source Terminal. Can be an input or output.", 7 S4A "Source Terminal. Can be an input or output.", 8 DA "Drain Terminal. Can be an input or output.", 9 DB "Drain Terminal. Can be an input or output.", 10 S4B "Source Terminal. Can be an input or output.", 11 S3B "Source Terminal. Can be an input or output.", 12 S2B "Source Terminal. Can be an input or output.", 13 S1B "Source Terminal. Can be an input or output.", 14 VDD (power) "Most Positive Power Supply Pin.", 15 GND (power) "Ground (0 V) Reference.", 16 A1 (in) "Digital Input. Controls the configuration of the switch."

## ADG725BCPZ
designator U?
1.8 to 5.5 V / +/-2.5 V, 4 Ohm, Serially Controlled, 16-Channel Analog Multiplexer, -40 to 85 degC, 48-pin QFN (CP-48-1), Tray; Manufacturer: Analog Devices; PartNumber: ADG725BCPZ; Bandwidth (Hz): 34M; Max Analog Signal Range: Vss to Vdd; Ron (ohms): 4; Supply V Guar Performance: Dual_(+/-2.5V), Single_(+3V), Single_(+5V); t transition (s): 42n; DatasheetVersion: Rev. A; PackageReference: CP-48-1; PackageDescription: 48-Pin Lead Frame Chip Scale Package, Body 7 x 7 mm, Pitch 0.5 mm; Supplier 1: Digi-Key; Supplier Part Number 1: ADG725BCPZ-ND; Supplier 2: Mouser; Supplier Part Number 2: 584-ADG725BCPZ; Packing: Tray; Mounting Technology: Surface Mount; Code_JEDEC: MO-220-VKKD-2; ComponentLink1Description: Manufacturer URL; ComponentLink1URL: http://www.analog.com/en/index.html; ComponentLink2Description: Datasheet; ComponentLink2URL: http://www.analog.com/static/imported-files/data_sheets/ADG725_731.pdf; ComponentLink3Description: Package Specification; ComponentLink3URL: http:/www.analog.com/static/imported-files/packages/PKG_PDF/LFCSP(CP)/CP-48/CP_48_1.pdf
footprint ADI-CP-48-1_N (QFN, 48-Leads, Body 7x7mm, Pitch 0.5mm, IPC Medium Density)
footprint ADI-CP-48-1_L (QFN, 48-Leads, Body 7x7mm, Pitch 0.5mm, IPC High Density)
footprint ADI-CP-48-1_M (QFN, 48-Leads, Body 7x7mm, Pitch 0.5mm, IPC Low Density)
pins: 1 S12A "Source. May be an input or output.", 2 S11A "Source. May be an input or output.", 3 S10A "Source. May be an input or output.", 4 S9A "Source. May be an input or output.", 5 S8A "Source. May be an input or output.", 6 S7A "Source. May be an input or output.", 7 S6A "Source. May be an input or output.", 8 S5A "Source. May be an input or output.", 9 S4A "Source. May be an input or output.", 10 S3A "Source. May be an input or output.", 11 S2A "Source. May be an input or output.", 12 S1A "Source. May be an input or output.", 13 VDD (power) "Power Supply Input. These parts can be operated from a single supply of 1.8 V to 5.5 V and a dual supply of +/-2.5 V.", 14 VDD (power) "Power Supply Input. These parts can be operated from a single supply of 1.8 V to 5.5 V and a dual supply of +/-2.5 V.", 15 NC "No Connect.", 16 NC "No Connect.", 17 ~{SYNC} (in) "Active Low Control Input. This is the frame synchronization signal for the input data. When S\Y\N\C\ goes low, it powers on the SCLK and DIN buffers and the input Shift Register is enabled. An 8-bit counter is also enabled. (See Datasheet)", 18 DIN (in) "Serial Data Input. Data is clocked into the 8-bit Input Register MSB first on the falling edge of the serial clock input.", 19 SCLK (in) "Serial Clock Input. Data is clocked into the Input Shift Register on the falling edge of the serial clock input. These devices can accommodate serial input rates of up to 30 MHz.", 20 NC "No Connect.", 21 NC "No Connect.", 22 NC "No Connect.", 23 GND (power) "Ground Reference", 24 VSS (power) "Most Negative Power Supply in a Dual-Supply Application. In single-supply applications, connect to GND.", 25 S1B "Source. May be an input or output.", 26 S2B "Source. May be an input or output.", 27 S3B "Source. May be an input or output.", 28 S4B "Source. May be an input or output.", 29 S5B "Source. May be an input or output.", 30 S6B "Source. May be an input or output.", 31 S7B "Source. May be an input or output.", 32 S8B "Source. May be an input or output.", 33 S9B "Source. May be an input or output.", 34 S10B "Source. May be an input or output.", 35 S11B "Source. May be an input or output.", 36 S12B "Source. May be an input or output.", 37 S13B "Source. May be an input or output.", 38 S14B "Source. May be an input or output.", 39 S15B "Source. May be an input or output.", 40 S16B "Source. May be an input or output.", 41 DB "Drain. May be an input or output.", 42 NC "No Connect.", 43 DA "Drain. May be an input or output.", 44 NC "No Connect.", 45 S16A "Source. May be an input or output.", 46 S15A "Source. May be an input or output.", 47 S14A "Source. May be an input or output.", 48 S13A "Source. May be an input or output.", 49 EP (power) "Exposed Paddle. The exposed metal paddle on the bottom of the LFCSP package must be soldered to the PCB AGND for proper heat dissipation and for noise and mechanical strength benefits."

## ADG725BSUZ
designator U?
1.8 to 5.5 V / +/-2.5 V, 4 Ohm, Serially Controlled, 16-Channel Analog Multiplexer, -40 to 85 degC, 48-pin QFP (SU-48), Tray; Manufacturer: Analog Devices; PartNumber: ADG725BSUZ; Bandwidth (Hz): 34M; Max Analog Signal Range: Vss to Vdd; Ron (ohms): 4; Supply V Guar Performance: Dual_(+/-2.5V), Single_(+3V), Single_(+5V); t transition (s): 42n; DatasheetVersion: Rev. A; PackageReference: SU-48; PackageDescription: 48-Pin Thin Plastic Quad Flat Package, Body 7 x 7 mm, Pitch 0.5 mm; Supplier 1: Digi-Key; Supplier Part Number 1: ADG725BSUZ-ND; Supplier 2: Farnell; Supplier Part Number 2: 2377067; Supplier 3: Farnell; Supplier Part Number 3: 1699523; Supplier 4: Newark; Supplier Part Number 4: 12M7827; Supplier 5: Mouser; Supplier Part Number 5: 584-ADG725BSUZ; Packing: Tray; Mounting Technology: Surface Mount; Code_JEDEC: MS-026ABC; ComponentLink1Description: Manufacturer URL; ComponentLink1URL: http://www.analog.com/en/index.html; ComponentLink2Description: Datasheet; ComponentLink2URL: http://www.analog.com/static/imported-files/data_sheets/ADG725_731.pdf; ComponentLink3Description: Package Specification; ComponentLink3URL: http://www.analog.com/static/imported-files/packages/470644706845302410119987SU48_7x7.pdf
footprint ADI-SU-48_N (QFP, 48-Leads, Body 7x7mm, Pitch 0.5mm, IPC Medium Density)
footprint ADI-SU-48_L (QFP, 48-Leads, Body 7x7mm, Pitch 0.5mm, IPC High Density)
footprint ADI-SU-48_M (QFP, 48-Leads, Body 7x7mm, Pitch 0.5mm, IPC Low Density)
pins: 1 S12A "Source. May be an input or output.", 2 S11A "Source. May be an input or output.", 3 S10A "Source. May be an input or output.", 4 S9A "Source. May be an input or output.", 5 S8A "Source. May be an input or output.", 6 S7A "Source. May be an input or output.", 7 S6A "Source. May be an input or output.", 8 S5A "Source. May be an input or output.", 9 S4A "Source. May be an input or output.", 10 S3A "Source. May be an input or output.", 11 S2A "Source. May be an input or output.", 12 S1A "Source. May be an input or output.", 13 VDD (power) "Power Supply Input. These parts can be operated from a single supply of 1.8 V to 5.5 V and a dual supply of +/-2.5 V.", 14 VDD (power) "Power Supply Input. These parts can be operated from a single supply of 1.8 V to 5.5 V and a dual supply of +/-2.5 V.", 15 NC "No connect.", 16 NC "No connect.", 17 ~{SYNC} (in) "Active Low Control Input. This is the frame synchronization signal for the input data. When S\Y\N\C\ goes low, it powers on the SCLK and DIN buffers and the input Shift Register is enabled. An 8-bit counter is also enabled. (See Datasheet)", 18 DIN (in) "Serial Data Input. Data is clocked into the 8-bit Input Register MSB first on the falling edge of the serial clock input.", 19 SCLK (in) "Serial Clock Input. Data is clocked into the Input Shift Register on the falling edge of the serial clock input. These devices can accommodate serial input rates of up to 30 MHz.", 20 NC "No connect.", 21 NC "No connect.", 22 NC "No connect.", 23 GND (power) "Ground Reference", 24 VSS (power) "Most Negative Power Supply in a Dual-Supply Application. In single-supply applications, connect to GND.", 25 S1B "Source. May be an input or output.", 26 S2B "Source. May be an input or output.", 27 S3B "Source. May be an input or output.", 28 S4B "Source. May be an input or output.", 29 S5B "Source. May be an input or output.", 30 S6B "Source. May be an input or output.", 31 S7B "Source. May be an input or output.", 32 S8B "Source. May be an input or output.", 33 S9B "Source. May be an input or output.", 34 S10B "Source. May be an input or output.", 35 S11B "Source. May be an input or output.", 36 S12B "Source. May be an input or output.", 37 S13B "Source. May be an input or output.", 38 S14B "Source. May be an input or output.", 39 S15B "Source. May be an input or output.", 40 S16B "Source. May be an input or output.", 41 DB "Drain. May be an input or output.", 42 NC "No connect.", 43 DA "Drain. May be an input or output.", 44 NC "No connect.", 45 S16A "Source. May be an input or output.", 46 S15A "Source. May be an input or output.", 47 S14A "Source. May be an input or output.", 48 S13A "Source. May be an input or output."

## ADG726BCPZ
designator U?
1.8 to 5.5 V / +/-2.5 V, 4 Ohm, 16-Channel Analog Multiplexer, -40 to 85 degC, 48-pin QFN (CP-48-1), Tray; Manufacturer: Analog Devices; PartNumber: ADG726BCPZ; Bandwidth (Hz): 34M; Max Analog Signal Range: Vss to Vdd; Ron (ohms): 4; Supply V Guar Performance: Dual_(+/-2.5V), Single_(+3V), Single_(+5V); t transition (s): 23n; DatasheetVersion: Rev. 0; PackageReference: CP-48-1; PackageDescription: 48-Pin Lead Frame Chip Scale Package, Body 7 x 7 mm, Pitch 0.5 mm; Supplier 1: Digi-Key; Supplier Part Number 1: ADG726BCPZ-ND; Supplier 2: Mouser; Supplier Part Number 2: 584-ADG726BCPZ; Packing: Tray; Mounting Technology: Surface Mount; Code_JEDEC: MO-220-VKKD-2; ComponentLink1Description: Manufacturer URL; ComponentLink1URL: http://www.analog.com/en/index.html; ComponentLink2Description: Datasheet; ComponentLink2URL: http://www.analog.com/static/imported-files/data_sheets/ADG726_732.pdf; ComponentLink3Description: Package Specification; ComponentLink3URL: http:/www.analog.com/static/imported-files/packages/PKG_PDF/LFCSP(CP)/CP-48/CP_48_1.pdf
footprint ADI-CP-48-1_N (QFN, 48-Leads, Body 7x7mm, Pitch 0.5mm, IPC Medium Density)
footprint ADI-CP-48-1_L (QFN, 48-Leads, Body 7x7mm, Pitch 0.5mm, IPC High Density)
footprint ADI-CP-48-1_M (QFN, 48-Leads, Body 7x7mm, Pitch 0.5mm, IPC Low Density)
pins: 1 S12A "Source Terminal. May be an input or output.", 2 S11A "Source Terminal. May be an input or output.", 3 S10A "Source Terminal. May be an input or output.", 4 S9A "Source Terminal. May be an input or output.", 5 S8A "Source Terminal. May be an input or output.", 6 S7A "Source Terminal. May be an input or output.", 7 S6A "Source Terminal. May be an input or output.", 8 S5A "Source Terminal. May be an input or output.", 9 S4A "Source Terminal. May be an input or output.", 10 S3A "Source Terminal. May be an input or output.", 11 S2A "Source Terminal. May be an input or output.", 12 S1A "Source Terminal. May be an input or output.", 13 VDD (power) "Most Positive Power Supply Potential", 14 VDD (power) "Most Positive Power Supply Potential", 15 A0 (in), 16 A1 (in), 17 A2 (in), 18 A3 (in), 19 ~{CSA} (in), 20 ~{CSB} (in), 21 ~{WR} (in), 22 ~{EN} (in), 23 GND (power) "Ground (0 V) Reference", 24 VSS (power) "Most Negative Power Supply in a Dual-Supply Application. In single-supply applications, connect to GND.", 25 S1B "Source Terminal. May be an input or output.", 26 S2B "Source Terminal. May be an input or output.", 27 S3B "Source Terminal. May be an input or output.", 28 S4B "Source Terminal. May be an input or output.", 29 S5B "Source Terminal. May be an input or output.", 30 S6B "Source Terminal. May be an input or output.", 31 S7B "Source Terminal. May be an input or output.", 32 S8B "Source Terminal. May be an input or output.", 33 S9B "Source Terminal. May be an input or output.", 34 S10B "Source Terminal. May be an input or output.", 35 S11B "Source Terminal. May be an input or output.", 36 S12B "Source Terminal. May be an input or output.", 37 S13B "Source Terminal. May be an input or output.", 38 S14B "Source Terminal. May be an input or output.", 39 S15B "Source Terminal. May be an input or output.", 40 S16B "Source Terminal. May be an input or output.", 41 DB "Drain Terminal. May be an input or output.", 42 NC "No connect", 43 DA "Drain Terminal. May be an input or output.", 44 NC "No connect", 45 S16A "Source Terminal. May be an input or output.", 46 S15A "Source Terminal. May be an input or output.", 47 S14A "Source Terminal. May be an input or output.", 48 S13A "Source Terminal. May be an input or output.", 49 EP